# Altium schematic symbol library Resistor - Chip - Uniohm.SchLib: 336 symbols (part 2 of 3)
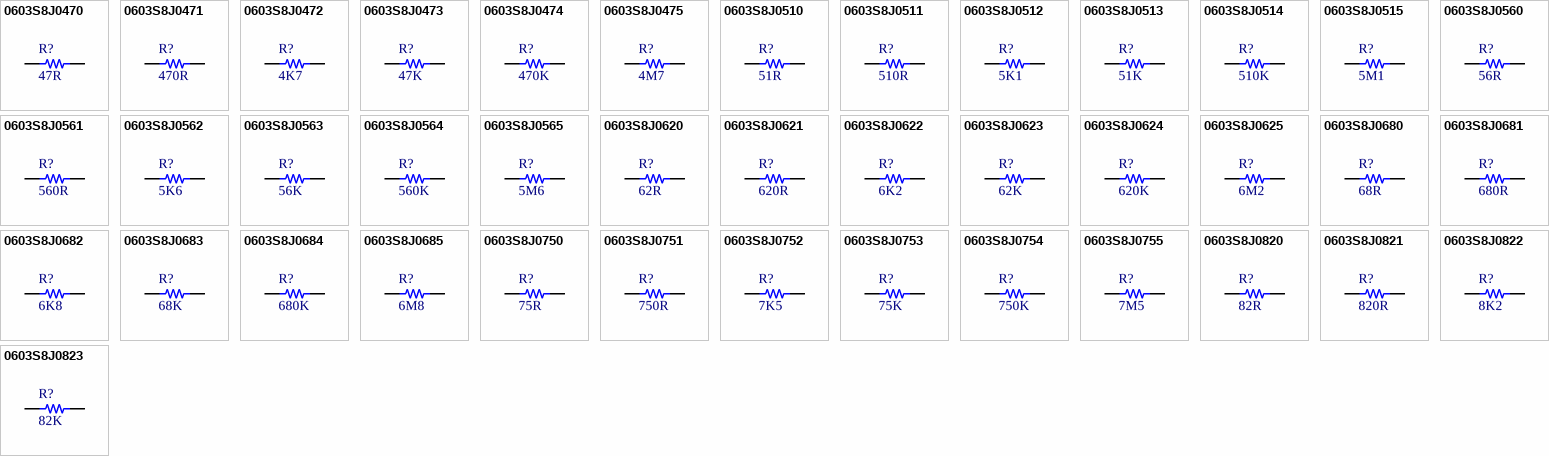
[diagram p9: symbols 0603S8J0470 to 0603S8J0823]

## 0603S8J0511
designator R?, comment 510R
RES SMD 510R OHM 5% 1/8W 0603; Part Number: 0603S8J0511; Manufacturer: Uniohm; TemperatureRange: -55C ~ 155C; TemperatureCoefficient: 100ppm/C; PowerRating: 0.125W, 1/8W; Value: 510R; Tolerance: 5%; Price: 0.0089; Device Package: 1608 (0603 Metric)
footprint RES 0603/1608 (Chip Resistor, 2-Leads, Body 1.60x0.80mm, IPC Medium Density)
pins: 1, 2

## 0603S8J0512
designator R?, comment 5K1
RES SMD 5K1 OHM 5% 1/8W 0603; Part Number: 0603S8J0512; Manufacturer: Uniohm; TemperatureRange: -55C ~ 155C; TemperatureCoefficient: 100ppm/C; PowerRating: 0.125W, 1/8W; Value: 5K1; Tolerance: 5%; Price: 0.0089; Device Package: 1608 (0603 Metric)
footprint RES 0603/1608 (Chip Resistor, 2-Leads, Body 1.60x0.80mm, IPC Medium Density)
pins: 1, 2

## 0603S8J0513
designator R?, comment 51K
RES SMD 51K OHM 5% 1/8W 0603; Part Number: 0603S8J0513; Manufacturer: Uniohm; TemperatureRange: -55C ~ 155C; TemperatureCoefficient: 100ppm/C; PowerRating: 0.125W, 1/8W; Value: 51K; Tolerance: 5%; Price: 0.0089; Device Package: 1608 (0603 Metric)
footprint RES 0603/1608 (Chip Resistor, 2-Leads, Body 1.60x0.80mm, IPC Medium Density)
pins: 1, 2

## 0603S8J0514
designator R?, comment 510K
RES SMD 510K OHM 5% 1/8W 0603; Part Number: 0603S8J0514; Manufacturer: Uniohm; TemperatureRange: -55C ~ 155C; TemperatureCoefficient: 100ppm/C; PowerRating: 0.125W, 1/8W; Value: 510K; Tolerance: 5%; Price: 0.0089; Device Package: 1608 (0603 Metric)
footprint RES 0603/1608 (Chip Resistor, 2-Leads, Body 1.60x0.80mm, IPC Medium Density)
pins: 1, 2

## 0603S8J0515
designator R?, comment 5M1
RES SMD 5M1 OHM 5% 1/8W 0603; Part Number: 0603S8J0515; Manufacturer: Uniohm; TemperatureRange: -55C ~ 155C; TemperatureCoefficient: 100ppm/C; PowerRating: 0.125W, 1/8W; Value: 5M1; Tolerance: 5%; Price: 0.0089; Device Package: 1608 (0603 Metric)
footprint RES 0603/1608 (Chip Resistor, 2-Leads, Body 1.60x0.80mm, IPC Medium Density)
pins: 1, 2

## 0603S8J0560
designator R?, comment 56R
RES SMD 56R OHM 5% 1/8W 0603; Part Number: 0603S8J0560; Manufacturer: Uniohm; TemperatureRange: -55C ~ 155C; TemperatureCoefficient: 100ppm/C; PowerRating: 0.125W, 1/8W; Value: 56R; Tolerance: 5%; Price: 0.0089; Device Package: 1608 (0603 Metric)
footprint RES 0603/1608 (Chip Resistor, 2-Leads, Body 1.60x0.80mm, IPC Medium Density)
pins: 1, 2

## 0603S8J0561
designator R?, comment 560R
RES SMD 560R OHM 5% 1/8W 0603; Part Number: 0603S8J0561; Manufacturer: Uniohm; TemperatureRange: -55C ~ 155C; TemperatureCoefficient: 100ppm/C; PowerRating: 0.125W, 1/8W; Value: 560R; Tolerance: 5%; Price: 0.0089; Device Package: 1608 (0603 Metric)
footprint RES 0603/1608 (Chip Resistor, 2-Leads, Body 1.60x0.80mm, IPC Medium Density)
pins: 1, 2

## 0603S8J0562
designator R?, comment 5K6
RES SMD 5K6 OHM 5% 1/8W 0603; Part Number: 0603S8J0562; Manufacturer: Uniohm; TemperatureRange: -55C ~ 155C; TemperatureCoefficient: 100ppm/C; PowerRating: 0.125W, 1/8W; Value: 5K6; Tolerance: 5%; Price: 0.0089; Device Package: 1608 (0603 Metric)
footprint RES 0603/1608 (Chip Resistor, 2-Leads, Body 1.60x0.80mm, IPC Medium Density)
pins: 1, 2

## 0603S8J0563
designator R?, comment 56K
RES SMD 56K OHM 5% 1/8W 0603; Part Number: 0603S8J0563; Manufacturer: Uniohm; TemperatureRange: -55C ~ 155C; TemperatureCoefficient: 100ppm/C; PowerRating: 0.125W, 1/8W; Value: 56K; Tolerance: 5%; Price: 0.0089; Device Package: 1608 (0603 Metric)
footprint RES 0603/1608 (Chip Resistor, 2-Leads, Body 1.60x0.80mm, IPC Medium Density)
pins: 1, 2

## 0603S8J0564
designator R?, comment 560K
RES SMD 560K OHM 5% 1/8W 0603; Part Number: 0603S8J0564; Manufacturer: Uniohm; TemperatureRange: -55C ~ 155C; TemperatureCoefficient: 100ppm/C; PowerRating: 0.125W, 1/8W; Value: 560K; Tolerance: 5%; Price: 0.0089; Device Package: 1608 (0603 Metric)
footprint RES 0603/1608 (Chip Resistor, 2-Leads, Body 1.60x0.80mm, IPC Medium Density)
pins: 1, 2

## 0603S8J0565
designator R?, comment 5M6
RES SMD 5M6 OHM 5% 1/8W 0603; Part Number: 0603S8J0565; Manufacturer: Uniohm; TemperatureRange: -55C ~ 155C; TemperatureCoefficient: 100ppm/C; PowerRating: 0.125W, 1/8W; Value: 5M6; Tolerance: 5%; Price: 0.0089; Device Package: 1608 (0603 Metric)
footprint RES 0603/1608 (Chip Resistor, 2-Leads, Body 1.60x0.80mm, IPC Medium Density)
pins: 1, 2

## 0603S8J0620
designator R?, comment 62R
RES SMD 62R OHM 5% 1/8W 0603; Part Number: 0603S8J0620; Manufacturer: Uniohm; TemperatureRange: -55C ~ 155C; TemperatureCoefficient: 100ppm/C; PowerRating: 0.125W, 1/8W; Value: 62R; Tolerance: 5%; Price: 0.0089; Device Package: 1608 (0603 Metric)
footprint RES 0603/1608 (Chip Resistor, 2-Leads, Body 1.60x0.80mm, IPC Medium Density)
pins: 1, 2

## 0603S8J0621
designator R?, comment 620R
RES SMD 620R OHM 5% 1/8W 0603; Part Number: 0603S8J0621; Manufacturer: Uniohm; TemperatureRange: -55C ~ 155C; TemperatureCoefficient: 100ppm/C; PowerRating: 0.125W, 1/8W; Value: 620R; Tolerance: 5%; Price: 0.0089; Device Package: 1608 (0603 Metric)
footprint RES 0603/1608 (Chip Resistor, 2-Leads, Body 1.60x0.80mm, IPC Medium Density)
pins: 1, 2

## 0603S8J0622
designator R?, comment 6K2
RES SMD 6K2 OHM 5% 1/8W 0603; Part Number: 0603S8J0622; Manufacturer: Uniohm; TemperatureRange: -55C ~ 155C; TemperatureCoefficient: 100ppm/C; PowerRating: 0.125W, 1/8W; Value: 6K2; Tolerance: 5%; Price: 0.0089; Device Package: 1608 (0603 Metric)
footprint RES 0603/1608 (Chip Resistor, 2-Leads, Body 1.60x0.80mm, IPC Medium Density)
pins: 1, 2

## 0603S8J0623
designator R?, comment 62K
RES SMD 62K OHM 5% 1/8W 0603; Part Number: 0603S8J0623; Manufacturer: Uniohm; TemperatureRange: -55C ~ 155C; TemperatureCoefficient: 100ppm/C; PowerRating: 0.125W, 1/8W; Value: 62K; Tolerance: 5%; Price: 0.0089; Device Package: 1608 (0603 Metric)
footprint RES 0603/1608 (Chip Resistor, 2-Leads, Body 1.60x0.80mm, IPC Medium Density)
pins: 1, 2

## 0603S8J0624
designator R?, comment 620K
RES SMD 620K OHM 5% 1/8W 0603; Part Number: 0603S8J0624; Manufacturer: Uniohm; TemperatureRange: -55C ~ 155C; TemperatureCoefficient: 100ppm/C; PowerRating: 0.125W, 1/8W; Value: 620K; Tolerance: 5%; Price: 0.0089; Device Package: 1608 (0603 Metric)
footprint RES 0603/1608 (Chip Resistor, 2-Leads, Body 1.60x0.80mm, IPC Medium Density)
pins: 1, 2

## 0603S8J0625
designator R?, comment 6M2
RES SMD 6M2 OHM 5% 1/8W 0603; Part Number: 0603S8J0625; Manufacturer: Uniohm; TemperatureRange: -55C ~ 155C; TemperatureCoefficient: 100ppm/C; PowerRating: 0.125W, 1/8W; Value: 6M2; Tolerance: 5%; Price: 0.0089; Device Package: 1608 (0603 Metric)
footprint RES 0603/1608 (Chip Resistor, 2-Leads, Body 1.60x0.80mm, IPC Medium Density)
pins: 1, 2

## 0603S8J0680
designator R?, comment 68R
RES SMD 68R OHM 5% 1/8W 0603; Part Number: 0603S8J0680; Manufacturer: Uniohm; TemperatureRange: -55C ~ 155C; TemperatureCoefficient: 100ppm/C; PowerRating: 0.125W, 1/8W; Value: 68R; Tolerance: 5%; Price: 0.0089; Device Package: 1608 (0603 Metric)
footprint RES 0603/1608 (Chip Resistor, 2-Leads, Body 1.60x0.80mm, IPC Medium Density)
pins: 1, 2

## 0603S8J0681
designator R?, comment 680R
RES SMD 680R OHM 5% 1/8W 0603; Part Number: 0603S8J0681; Manufacturer: Uniohm; TemperatureRange: -55C ~ 155C; TemperatureCoefficient: 100ppm/C; PowerRating: 0.125W, 1/8W; Value: 680R; Tolerance: 5%; Price: 0.0089; Device Package: 1608 (0603 Metric)
footprint RES 0603/1608 (Chip Resistor, 2-Leads, Body 1.60x0.80mm, IPC Medium Density)
pins: 1, 2

## 0603S8J0682
designator R?, comment 6K8
RES SMD 6K8 OHM 5% 1/8W 0603; Part Number: 0603S8J0682; Manufacturer: Uniohm; TemperatureRange: -55C ~ 155C; TemperatureCoefficient: 100ppm/C; PowerRating: 0.125W, 1/8W; Value: 6K8; Tolerance: 5%; Price: 0.0089; Device Package: 1608 (0603 Metric)
footprint RES 0603/1608 (Chip Resistor, 2-Leads, Body 1.60x0.80mm, IPC Medium Density)
pins: 1, 2

## 0603S8J0683
designator R?, comment 68K
RES SMD 68K OHM 5% 1/8W 0603; Part Number: 0603S8J0683; Manufacturer: Uniohm; TemperatureRange: -55C ~ 155C; TemperatureCoefficient: 100ppm/C; PowerRating: 0.125W, 1/8W; Value: 68K; Tolerance: 5%; Price: 0.0089; Device Package: 1608 (0603 Metric)
footprint RES 0603/1608 (Chip Resistor, 2-Leads, Body 1.60x0.80mm, IPC Medium Density)
pins: 1, 2

## 0603S8J0684
designator R?, comment 680K
RES SMD 680K OHM 5% 1/8W 0603; Part Number: 0603S8J0684; Manufacturer: Uniohm; TemperatureRange: -55C ~ 155C; TemperatureCoefficient: 100ppm/C; PowerRating: 0.125W, 1/8W; Value: 680K; Tolerance: 5%; Price: 0.0089; Device Package: 1608 (0603 Metric)
footprint RES 0603/1608 (Chip Resistor, 2-Leads, Body 1.60x0.80mm, IPC Medium Density)
pins: 1, 2

## 0603S8J0685
designator R?, comment 6M8
RES SMD 6M8 OHM 5% 1/8W 0603; Part Number: 0603S8J0685; Manufacturer: Uniohm; TemperatureRange: -55C ~ 155C; TemperatureCoefficient: 100ppm/C; PowerRating: 0.125W, 1/8W; Value: 6M8; Tolerance: 5%; Price: 0.0089; Device Package: 1608 (0603 Metric)
footprint RES 0603/1608 (Chip Resistor, 2-Leads, Body 1.60x0.80mm, IPC Medium Density)
pins: 1, 2

## 0603S8J0750
designator R?, comment 75R
RES SMD 75R OHM 5% 1/8W 0603; Part Number: 0603S8J0750; Manufacturer: Uniohm; TemperatureRange: -55C ~ 155C; TemperatureCoefficient: 100ppm/C; PowerRating: 0.125W, 1/8W; Value: 75R; Tolerance: 5%; Price: 0.0089; Device Package: 1608 (0603 Metric)
footprint RES 0603/1608 (Chip Resistor, 2-Leads, Body 1.60x0.80mm, IPC Medium Density)
pins: 1, 2

## 0603S8J0751
designator R?, comment 750R
RES SMD 750R OHM 5% 1/8W 0603; Part Number: 0603S8J0751; Manufacturer: Uniohm; TemperatureRange: -55C ~ 155C; TemperatureCoefficient: 100ppm/C; PowerRating: 0.125W, 1/8W; Value: 750R; Tolerance: 5%; Price: 0.0089; Device Package: 1608 (0603 Metric)
footprint RES 0603/1608 (Chip Resistor, 2-Leads, Body 1.60x0.80mm, IPC Medium Density)
pins: 1, 2

## 0603S8J0752
designator R?, comment 7K5
RES SMD 7K5 OHM 5% 1/8W 0603; Part Number: 0603S8J0752; Manufacturer: Uniohm; TemperatureRange: -55C ~ 155C; TemperatureCoefficient: 100ppm/C; PowerRating: 0.125W, 1/8W; Value: 7K5; Tolerance: 5%; Price: 0.0089; Device Package: 1608 (0603 Metric)
footprint RES 0603/1608 (Chip Resistor, 2-Leads, Body 1.60x0.80mm, IPC Medium Density)
pins: 1, 2

## 0603S8J0753
designator R?, comment 75K
RES SMD 75K OHM 5% 1/8W 0603; Part Number: 0603S8J0753; Manufacturer: Uniohm; TemperatureRange: -55C ~ 155C; TemperatureCoefficient: 100ppm/C; PowerRating: 0.125W, 1/8W; Value: 75K; Tolerance: 5%; Price: 0.0089; Device Package: 1608 (0603 Metric)
footprint RES 0603/1608 (Chip Resistor, 2-Leads, Body 1.60x0.80mm, IPC Medium Density)
pins: 1, 2

## 0603S8J0754
designator R?, comment 750K
RES SMD 750K OHM 5% 1/8W 0603; Part Number: 0603S8J0754; Manufacturer: Uniohm; TemperatureRange: -55C ~ 155C; TemperatureCoefficient: 100ppm/C; PowerRating: 0.125W, 1/8W; Value: 750K; Tolerance: 5%; Price: 0.0089; Device Package: 1608 (0603 Metric)
footprint RES 0603/1608 (Chip Resistor, 2-Leads, Body 1.60x0.80mm, IPC Medium Density)
pins: 1, 2

## 0603S8J0755
designator R?, comment 7M5
RES SMD 7M5 OHM 5% 1/8W 0603; Part Number: 0603S8J0755; Manufacturer: Uniohm; TemperatureRange: -55C ~ 155C; TemperatureCoefficient: 100ppm/C; PowerRating: 0.125W, 1/8W; Value: 7M5; Tolerance: 5%; Price: 0.0089; Device Package: 1608 (0603 Metric)
footprint RES 0603/1608 (Chip Resistor, 2-Leads, Body 1.60x0.80mm, IPC Medium Density)
pins: 1, 2

## 0603S8J0820
designator R?, comment 82R
RES SMD 82R OHM 5% 1/8W 0603; Part Number: 0603S8J0820; Manufacturer: Uniohm; TemperatureRange: -55C ~ 155C; TemperatureCoefficient: 100ppm/C; PowerRating: 0.125W, 1/8W; Value: 82R; Tolerance: 5%; Price: 0.0089; Device Package: 1608 (0603 Metric)
footprint RES 0603/1608 (Chip Resistor, 2-Leads, Body 1.60x0.80mm, IPC Medium Density)
pins: 1, 2

## 0603S8J0821
designator R?, comment 820R
RES SMD 820R OHM 5% 1/8W 0603; Part Number: 0603S8J0821; Manufacturer: Uniohm; TemperatureRange: -55C ~ 155C; TemperatureCoefficient: 100ppm/C; PowerRating: 0.125W, 1/8W; Value: 820R; Tolerance: 5%; Price: 0.0089; Device Package: 1608 (0603 Metric)
footprint RES 0603/1608 (Chip Resistor, 2-Leads, Body 1.60x0.80mm, IPC Medium Density)
pins: 1, 2

## 0603S8J0822
designator R?, comment 8K2
RES SMD 8K2 OHM 5% 1/8W 0603; Part Number: 0603S8J0822; Manufacturer: Uniohm; TemperatureRange: -55C ~ 155C; TemperatureCoefficient: 100ppm/C; PowerRating: 0.125W, 1/8W; Value: 8K2; Tolerance: 5%; Price: 0.0089; Device Package: 1608 (0603 Metric)
footprint RES 0603/1608 (Chip Resistor, 2-Leads, Body 1.60x0.80mm, IPC Medium Density)
pins: 1, 2

## 0603S8J0823
designator R?, comment 82K
RES SMD 82K OHM 5% 1/8W 0603; Part Number: 0603S8J0823; Manufacturer: Uniohm; TemperatureRange: -55C ~ 155C; TemperatureCoefficient: 100ppm/C; PowerRating: 0.125W, 1/8W; Value: 82K; Tolerance: 5%; Price: 0.0089; Device Package: 1608 (0603 Metric)
footprint RES 0603/1608 (Chip Resistor, 2-Leads, Body 1.60x0.80mm, IPC Medium Density)
pins: 1, 2

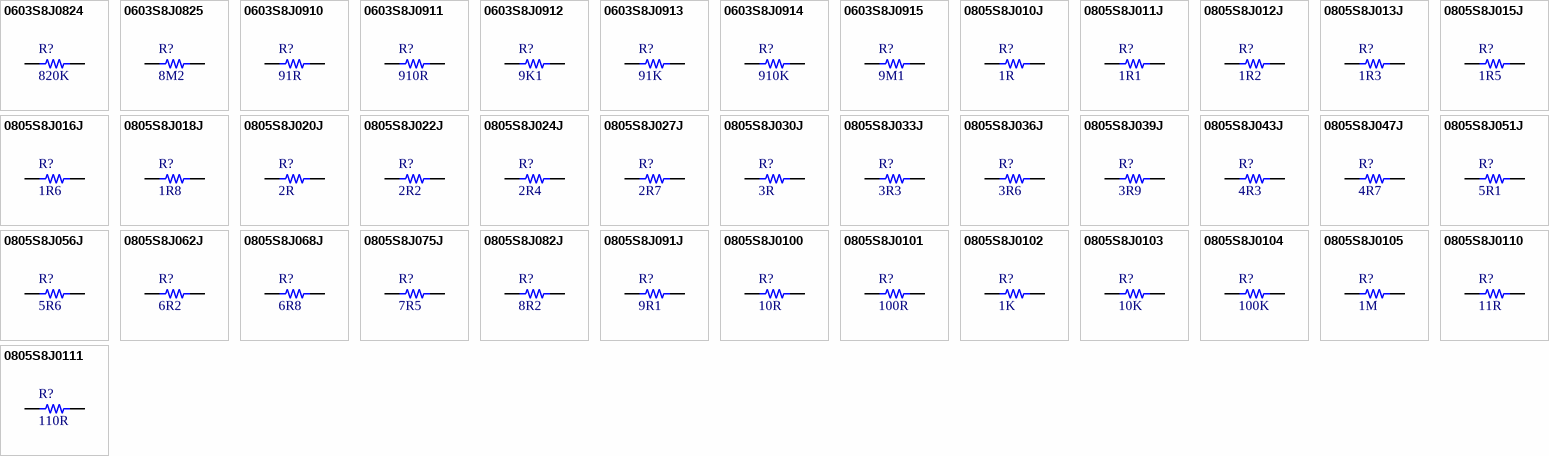
[diagram p4: symbols 0603S8J0824 to 0805S8J0111]

## 0603S8J0824
designator R?, comment 820K
RES SMD 820K OHM 5% 1/8W 0603; Part Number: 0603S8J0824; Manufacturer: Uniohm; TemperatureRange: -55C ~ 155C; TemperatureCoefficient: 100ppm/C; PowerRating: 0.125W, 1/8W; Value: 820K; Tolerance: 5%; Price: 0.0089; Device Package: 1608 (0603 Metric)
footprint RES 0603/1608 (Chip Resistor, 2-Leads, Body 1.60x0.80mm, IPC Medium Density)
pins: 1, 2

## 0603S8J0825
designator R?, comment 8M2
RES SMD 8M2 OHM 5% 1/8W 0603; Part Number: 0603S8J0825; Manufacturer: Uniohm; TemperatureRange: -55C ~ 155C; TemperatureCoefficient: 100ppm/C; PowerRating: 0.125W, 1/8W; Value: 8M2; Tolerance: 5%; Price: 0.0089; Device Package: 1608 (0603 Metric)
footprint RES 0603/1608 (Chip Resistor, 2-Leads, Body 1.60x0.80mm, IPC Medium Density)
pins: 1, 2

## 0603S8J0910
designator R?, comment 91R
RES SMD 91R OHM 5% 1/8W 0603; Part Number: 0603S8J0910; Manufacturer: Uniohm; TemperatureRange: -55C ~ 155C; TemperatureCoefficient: 100ppm/C; PowerRating: 0.125W, 1/8W; Value: 91R; Tolerance: 5%; Price: 0.0089; Device Package: 1608 (0603 Metric)
footprint RES 0603/1608 (Chip Resistor, 2-Leads, Body 1.60x0.80mm, IPC Medium Density)
pins: 1, 2

## 0603S8J0911
designator R?, comment 910R
RES SMD 910R OHM 5% 1/8W 0603; Part Number: 0603S8J0911; Manufacturer: Uniohm; TemperatureRange: -55C ~ 155C; TemperatureCoefficient: 100ppm/C; PowerRating: 0.125W, 1/8W; Value: 910R; Tolerance: 5%; Price: 0.0089; Device Package: 1608 (0603 Metric)
footprint RES 0603/1608 (Chip Resistor, 2-Leads, Body 1.60x0.80mm, IPC Medium Density)
pins: 1, 2

## 0603S8J0912
designator R?, comment 9K1
RES SMD 9K1 OHM 5% 1/8W 0603; Part Number: 0603S8J0912; Manufacturer: Uniohm; TemperatureRange: -55C ~ 155C; TemperatureCoefficient: 100ppm/C; PowerRating: 0.125W, 1/8W; Value: 9K1; Tolerance: 5%; Price: 0.0089; Device Package: 1608 (0603 Metric)
footprint RES 0603/1608 (Chip Resistor, 2-Leads, Body 1.60x0.80mm, IPC Medium Density)
pins: 1, 2

## 0603S8J0913
designator R?, comment 91K
RES SMD 91K OHM 5% 1/8W 0603; Part Number: 0603S8J0913; Manufacturer: Uniohm; TemperatureRange: -55C ~ 155C; TemperatureCoefficient: 100ppm/C; PowerRating: 0.125W, 1/8W; Value: 91K; Tolerance: 5%; Price: 0.0089; Device Package: 1608 (0603 Metric)
footprint RES 0603/1608 (Chip Resistor, 2-Leads, Body 1.60x0.80mm, IPC Medium Density)
pins: 1, 2

## 0603S8J0914
designator R?, comment 910K
RES SMD 910K OHM 5% 1/8W 0603; Part Number: 0603S8J0914; Manufacturer: Uniohm; TemperatureRange: -55C ~ 155C; TemperatureCoefficient: 100ppm/C; PowerRating: 0.125W, 1/8W; Value: 910K; Tolerance: 5%; Price: 0.0089; Device Package: 1608 (0603 Metric)
footprint RES 0603/1608 (Chip Resistor, 2-Leads, Body 1.60x0.80mm, IPC Medium Density)
pins: 1, 2

## 0603S8J0915
designator R?, comment 9M1
RES SMD 9M1 OHM 5% 1/8W 0603; Part Number: 0603S8J0915; Manufacturer: Uniohm; TemperatureRange: -55C ~ 155C; TemperatureCoefficient: 100ppm/C; PowerRating: 0.125W, 1/8W; Value: 9M1; Tolerance: 5%; Price: 0.0089; Device Package: 1608 (0603 Metric)
footprint RES 0603/1608 (Chip Resistor, 2-Leads, Body 1.60x0.80mm, IPC Medium Density)
pins: 1, 2

## 0805S8J010J
designator R?, comment 1R
RES SMD 1R OHM 5% 1/8W 0805; Part Number: 0805S8J010J; Manufacturer: Uniohm; TemperatureRange: -55C ~ 155C; TemperatureCoefficient: 100ppm/C; PowerRating: 0.125W, 1/8W; Value: 1R; Tolerance: 5%; Price: 0.0089; Device Package: 2012 (0805 Metric)
footprint Model Name (Model Description)
footprint Model Name (Model Description)
footprint RES 0805/2012 (Chip Resistor, 2-Leads, Body 2.00x1.25mm, IPC Medium Density)
pins: 1, 2

## 0805S8J011J
designator R?, comment 1R1
RES SMD 1R1 OHM 5% 1/8W 0805; Part Number: 0805S8J011J; Manufacturer: Uniohm; TemperatureRange: -55C ~ 155C; TemperatureCoefficient: 100ppm/C; PowerRating: 0.125W, 1/8W; Value: 1R1; Tolerance: 5%; Price: 0.0089; Device Package: 2012 (0805 Metric)
footprint RES 0805/2012 (Chip Resistor, 2-Leads, Body 2.00x1.25mm, IPC Medium Density)
pins: 1, 2

## 0805S8J012J
designator R?, comment 1R2
RES SMD 1R2 OHM 5% 1/8W 0805; Part Number: 0805S8J012J; Manufacturer: Uniohm; TemperatureRange: -55C ~ 155C; TemperatureCoefficient: 100ppm/C; PowerRating: 0.125W, 1/8W; Value: 1R2; Tolerance: 5%; Price: 0.0089; Device Package: 2012 (0805 Metric)
footprint RES 0805/2012 (Chip Resistor, 2-Leads, Body 2.00x1.25mm, IPC Medium Density)
pins: 1, 2

## 0805S8J013J
designator R?, comment 1R3
RES SMD 1R3 OHM 5% 1/8W 0805; Part Number: 0805S8J013J; Manufacturer: Uniohm; TemperatureRange: -55C ~ 155C; TemperatureCoefficient: 100ppm/C; PowerRating: 0.125W, 1/8W; Value: 1R3; Tolerance: 5%; Price: 0.0089; Device Package: 2012 (0805 Metric)
footprint RES 0805/2012 (Chip Resistor, 2-Leads, Body 2.00x1.25mm, IPC Medium Density)
pins: 1, 2

## 0805S8J015J
designator R?, comment 1R5
RES SMD 1R5 OHM 5% 1/8W 0805; Part Number: 0805S8J015J; Manufacturer: Uniohm; TemperatureRange: -55C ~ 155C; TemperatureCoefficient: 100ppm/C; PowerRating: 0.125W, 1/8W; Value: 1R5; Tolerance: 5%; Price: 0.0089; Device Package: 2012 (0805 Metric)
footprint RES 0805/2012 (Chip Resistor, 2-Leads, Body 2.00x1.25mm, IPC Medium Density)
pins: 1, 2

## 0805S8J016J
designator R?, comment 1R6
RES SMD 1R6 OHM 5% 1/8W 0805; Part Number: 0805S8J016J; Manufacturer: Uniohm; TemperatureRange: -55C ~ 155C; TemperatureCoefficient: 100ppm/C; PowerRating: 0.125W, 1/8W; Value: 1R6; Tolerance: 5%; Price: 0.0089; Device Package: 2012 (0805 Metric)
footprint RES 0805/2012 (Chip Resistor, 2-Leads, Body 2.00x1.25mm, IPC Medium Density)
pins: 1, 2

## 0805S8J018J
designator R?, comment 1R8
RES SMD 1R8 OHM 5% 1/8W 0805; Part Number: 0805S8J018J; Manufacturer: Uniohm; TemperatureRange: -55C ~ 155C; TemperatureCoefficient: 100ppm/C; PowerRating: 0.125W, 1/8W; Value: 1R8; Tolerance: 5%; Price: 0.0089; Device Package: 2012 (0805 Metric)
footprint RES 0805/2012 (Chip Resistor, 2-Leads, Body 2.00x1.25mm, IPC Medium Density)
pins: 1, 2

## 0805S8J020J
designator R?, comment 2R
RES SMD 2R OHM 5% 1/8W 0805; Part Number: 0805S8J020J; Manufacturer: Uniohm; TemperatureRange: -55C ~ 155C; TemperatureCoefficient: 100ppm/C; PowerRating: 0.125W, 1/8W; Value: 2R; Tolerance: 5%; Price: 0.0089; Device Package: 2012 (0805 Metric)
footprint RES 0805/2012 (Chip Resistor, 2-Leads, Body 2.00x1.25mm, IPC Medium Density)
pins: 1, 2

## 0805S8J022J
designator R?, comment 2R2
RES SMD 2R2 OHM 5% 1/8W 0805; Part Number: 0805S8J022J; Manufacturer: Uniohm; TemperatureRange: -55C ~ 155C; TemperatureCoefficient: 100ppm/C; PowerRating: 0.125W, 1/8W; Value: 2R2; Tolerance: 5%; Price: 0.0089; Device Package: 2012 (0805 Metric)
footprint RES 0805/2012 (Chip Resistor, 2-Leads, Body 2.00x1.25mm, IPC Medium Density)
pins: 1, 2

## 0805S8J024J
designator R?, comment 2R4
RES SMD 2R4 OHM 5% 1/8W 0805; Part Number: 0805S8J024J; Manufacturer: Uniohm; TemperatureRange: -55C ~ 155C; TemperatureCoefficient: 100ppm/C; PowerRating: 0.125W, 1/8W; Value: 2R4; Tolerance: 5%; Price: 0.0089; Device Package: 2012 (0805 Metric)
footprint RES 0805/2012 (Chip Resistor, 2-Leads, Body 2.00x1.25mm, IPC Medium Density)
pins: 1, 2

## 0805S8J027J
designator R?, comment 2R7
RES SMD 2R7 OHM 5% 1/8W 0805; Part Number: 0805S8J027J; Manufacturer: Uniohm; TemperatureRange: -55C ~ 155C; TemperatureCoefficient: 100ppm/C; PowerRating: 0.125W, 1/8W; Value: 2R7; Tolerance: 5%; Price: 0.0089; Device Package: 2012 (0805 Metric)
footprint RES 0805/2012 (Chip Resistor, 2-Leads, Body 2.00x1.25mm, IPC Medium Density)
pins: 1, 2

## 0805S8J030J
designator R?, comment 3R
RES SMD 3R OHM 5% 1/8W 0805; Part Number: 0805S8J030J; Manufacturer: Uniohm; TemperatureRange: -55C ~ 155C; TemperatureCoefficient: 100ppm/C; PowerRating: 0.125W, 1/8W; Value: 3R; Tolerance: 5%; Price: 0.0089; Device Package: 2012 (0805 Metric)
footprint RES 0805/2012 (Chip Resistor, 2-Leads, Body 2.00x1.25mm, IPC Medium Density)
pins: 1, 2

## 0805S8J033J
designator R?, comment 3R3
RES SMD 3R3 OHM 5% 1/8W 0805; Part Number: 0805S8J033J; Manufacturer: Uniohm; TemperatureRange: -55C ~ 155C; TemperatureCoefficient: 100ppm/C; PowerRating: 0.125W, 1/8W; Value: 3R3; Tolerance: 5%; Price: 0.0089; Device Package: 2012 (0805 Metric)
footprint RES 0805/2012 (Chip Resistor, 2-Leads, Body 2.00x1.25mm, IPC Medium Density)
pins: 1, 2

## 0805S8J036J
designator R?, comment 3R6
RES SMD 3R6 OHM 5% 1/8W 0805; Part Number: 0805S8J036J; Manufacturer: Uniohm; TemperatureRange: -55C ~ 155C; TemperatureCoefficient: 100ppm/C; PowerRating: 0.125W, 1/8W; Value: 3R6; Tolerance: 5%; Price: 0.0089; Device Package: 2012 (0805 Metric)
footprint RES 0805/2012 (Chip Resistor, 2-Leads, Body 2.00x1.25mm, IPC Medium Density)
pins: 1, 2

## 0805S8J039J
designator R?, comment 3R9
RES SMD 3R9 OHM 5% 1/8W 0805; Part Number: 0805S8J039J; Manufacturer: Uniohm; TemperatureRange: -55C ~ 155C; TemperatureCoefficient: 100ppm/C; PowerRating: 0.125W, 1/8W; Value: 3R9; Tolerance: 5%; Price: 0.0089; Device Package: 2012 (0805 Metric)
footprint RES 0805/2012 (Chip Resistor, 2-Leads, Body 2.00x1.25mm, IPC Medium Density)
pins: 1, 2

## 0805S8J043J
designator R?, comment 4R3
RES SMD 4R3 OHM 5% 1/8W 0805; Part Number: 0805S8J0143J; Manufacturer: Uniohm; TemperatureRange: -55C ~ 155C; TemperatureCoefficient: 100ppm/C; PowerRating: 0.125W, 1/8W; Value: 4R3; Tolerance: 5%; Price: 0.0089; Device Package: 2012 (0805 Metric)
footprint RES 0805/2012 (Chip Resistor, 2-Leads, Body 2.00x1.25mm, IPC Medium Density)
pins: 1, 2

## 0805S8J047J
designator R?, comment 4R7
RES SMD 4R7 OHM 5% 1/8W 0805; Part Number: 0805S8J047J; Manufacturer: Uniohm; TemperatureRange: -55C ~ 155C; TemperatureCoefficient: 100ppm/C; PowerRating: 0.125W, 1/8W; Value: 4R7; Tolerance: 5%; Price: 0.0089; Device Package: 2012 (0805 Metric)
footprint RES 0805/2012 (Chip Resistor, 2-Leads, Body 2.00x1.25mm, IPC Medium Density)
pins: 1, 2

## 0805S8J051J
designator R?, comment 5R1
RES SMD 5R1 OHM 5% 1/8W 0805; Part Number: 0805S8J051J; Manufacturer: Uniohm; TemperatureRange: -55C ~ 155C; TemperatureCoefficient: 100ppm/C; PowerRating: 0.125W, 1/8W; Value: 5R1; Tolerance: 5%; Price: 0.0089; Device Package: 2012 (0805 Metric)
footprint RES 0805/2012 (Chip Resistor, 2-Leads, Body 2.00x1.25mm, IPC Medium Density)
pins: 1, 2

## 0805S8J056J
designator R?, comment 5R6
RES SMD 5R6 OHM 5% 1/8W 0805; Part Number: 0805S8J056J; Manufacturer: Uniohm; TemperatureRange: -55C ~ 155C; TemperatureCoefficient: 100ppm/C; PowerRating: 0.125W, 1/8W; Value: 5R6; Tolerance: 5%; Price: 0.0089; Device Package: 2012 (0805 Metric)
footprint RES 0805/2012 (Chip Resistor, 2-Leads, Body 2.00x1.25mm, IPC Medium Density)
pins: 1, 2

## 0805S8J062J
designator R?, comment 6R2
RES SMD 6R2 OHM 5% 1/8W 0805; Part Number: 0805S8J062J; Manufacturer: Uniohm; TemperatureRange: -55C ~ 155C; TemperatureCoefficient: 100ppm/C; PowerRating: 0.125W, 1/8W; Value: 6R2; Tolerance: 5%; Price: 0.0089; Device Package: 2012 (0805 Metric)
footprint RES 0805/2012 (Chip Resistor, 2-Leads, Body 2.00x1.25mm, IPC Medium Density)
pins: 1, 2

## 0805S8J068J
designator R?, comment 6R8
RES SMD 6R8 OHM 5% 1/8W 0805; Part Number: 0805S8J068J; Manufacturer: Uniohm; TemperatureRange: -55C ~ 155C; TemperatureCoefficient: 100ppm/C; PowerRating: 0.125W, 1/8W; Value: 6R8; Tolerance: 5%; Price: 0.0089; Device Package: 2012 (0805 Metric)
footprint RES 0805/2012 (Chip Resistor, 2-Leads, Body 2.00x1.25mm, IPC Medium Density)
pins: 1, 2

## 0805S8J075J
designator R?, comment 7R5
RES SMD 7R5 OHM 5% 1/8W 0805; Part Number: 0805S8J075J; Manufacturer: Uniohm; TemperatureRange: -55C ~ 155C; TemperatureCoefficient: 100ppm/C; PowerRating: 0.125W, 1/8W; Value: 7R5; Tolerance: 5%; Price: 0.0089; Device Package: 2012 (0805 Metric)
footprint RES 0805/2012 (Chip Resistor, 2-Leads, Body 2.00x1.25mm, IPC Medium Density)
pins: 1, 2

## 0805S8J082J
designator R?, comment 8R2
RES SMD 8R2 OHM 5% 1/8W 0805; Part Number: 0805S8J082J; Manufacturer: Uniohm; TemperatureRange: -55C ~ 155C; TemperatureCoefficient: 100ppm/C; PowerRating: 0.125W, 1/8W; Value: 8R2; Tolerance: 5%; Price: 0.0089; Device Package: 2012 (0805 Metric)
footprint RES 0805/2012 (Chip Resistor, 2-Leads, Body 2.00x1.25mm, IPC Medium Density)
pins: 1, 2

## 0805S8J091J
designator R?, comment 9R1
RES SMD 9R1 OHM 5% 1/8W 0805; Part Number: 0805S8J091J; Manufacturer: Uniohm; TemperatureRange: -55C ~ 155C; TemperatureCoefficient: 100ppm/C; PowerRating: 0.125W, 1/8W; Value: 9R1; Tolerance: 5%; Price: 0.0089; Device Package: 2012 (0805 Metric)
footprint RES 0805/2012 (Chip Resistor, 2-Leads, Body 2.00x1.25mm, IPC Medium Density)
pins: 1, 2

## 0805S8J0100
designator R?, comment 10R
RES SMD 10R OHM 5% 1/8W 0805; Part Number: 0805S8J0100; Manufacturer: Uniohm; TemperatureRange: -55C ~ 155C; TemperatureCoefficient: 100ppm/C; PowerRating: 0.125W, 1/8W; Value: 10R; Tolerance: 5%; Price: 0.0089; Device Package: 2012 (0805 Metric)
footprint RES 0805/2012 (Chip Resistor, 2-Leads, Body 2.00x1.25mm, IPC Medium Density)
pins: 1, 2

## 0805S8J0101
designator R?, comment 100R
RES SMD 100R OHM 5% 1/8W 0805; Part Number: 0805S8J0101; Manufacturer: Uniohm; TemperatureRange: -55C ~ 155C; TemperatureCoefficient: 100ppm/C; PowerRating: 0.125W, 1/8W; Value: 100R; Tolerance: 5%; Price: 0.0089; Device Package: 2012 (0805 Metric)
footprint RES 0805/2012 (Chip Resistor, 2-Leads, Body 2.00x1.25mm, IPC Medium Density)
pins: 1, 2

## 0805S8J0102
designator R?, comment 1K
RES SMD 1K OHM 5% 1/8W 0805; Part Number: 0805S8J0102; Manufacturer: Uniohm; TemperatureRange: -55C ~ 155C; TemperatureCoefficient: 100ppm/C; PowerRating: 0.125W, 1/8W; Value: 1K; Tolerance: 5%; Price: 0.0089; Device Package: 2012 (0805 Metric)
footprint RES 0805/2012 (Chip Resistor, 2-Leads, Body 2.00x1.25mm, IPC Medium Density)
pins: 1, 2

## 0805S8J0103
designator R?, comment 10K
RES SMD 10K OHM 5% 1/8W 0805; Part Number: 0805S8J0103; Manufacturer: Uniohm; TemperatureRange: -55C ~ 155C; TemperatureCoefficient: 100ppm/C; PowerRating: 0.125W, 1/8W; Value: 10K; Tolerance: 5%; Price: 0.0089; Device Package: 2012 (0805 Metric)
footprint RES 0805/2012 (Chip Resistor, 2-Leads, Body 2.00x1.25mm, IPC Medium Density)
pins: 1, 2

## 0805S8J0104
designator R?, comment 100K
RES SMD 100K OHM 5% 1/8W 0805; Part Number: 0805S8J0104; Manufacturer: Uniohm; TemperatureRange: -55C ~ 155C; TemperatureCoefficient: 100ppm/C; PowerRating: 0.125W, 1/8W; Value: 100K; Tolerance: 5%; Price: 0.0089; Device Package: 2012 (0805 Metric)
footprint RES 0805/2012 (Chip Resistor, 2-Leads, Body 2.00x1.25mm, IPC Medium Density)
pins: 1, 2

## 0805S8J0105
designator R?, comment 1M
RES SMD 1M OHM 5% 1/8W 0805; Part Number: 0805S8J0105; Manufacturer: Uniohm; TemperatureRange: -55C ~ 155C; TemperatureCoefficient: 100ppm/C; PowerRating: 0.125W, 1/8W; Value: 1M; Tolerance: 5%; Price: 0.0089; Device Package: 2012 (0805 Metric)
footprint RES 0805/2012 (Chip Resistor, 2-Leads, Body 2.00x1.25mm, IPC Medium Density)
pins: 1, 2

## 0805S8J0110
designator R?, comment 11R
RES SMD 11R OHM 5% 1/8W 0805; Part Number: 0805S8J0110; Manufacturer: Uniohm; TemperatureRange: -55C ~ 155C; TemperatureCoefficient: 100ppm/C; PowerRating: 0.125W, 1/8W; Value: 11R; Tolerance: 5%; Price: 0.0089; Device Package: 2012 (0805 Metric)
footprint RES 0805/2012 (Chip Resistor, 2-Leads, Body 2.00x1.25mm, IPC Medium Density)
pins: 1, 2

## 0805S8J0111
designator R?, comment 110R
RES SMD 110R OHM 5% 1/8W 0805; Part Number: 0805S8J0111; Manufacturer: Uniohm; TemperatureRange: -55C ~ 155C; TemperatureCoefficient: 100ppm/C; PowerRating: 0.125W, 1/8W; Value: 110R; Tolerance: 5%; Price: 0.0089; Device Package: 2012 (0805 Metric)
footprint RES 0805/2012 (Chip Resistor, 2-Leads, Body 2.00x1.25mm, IPC Medium Density)
pins: 1, 2

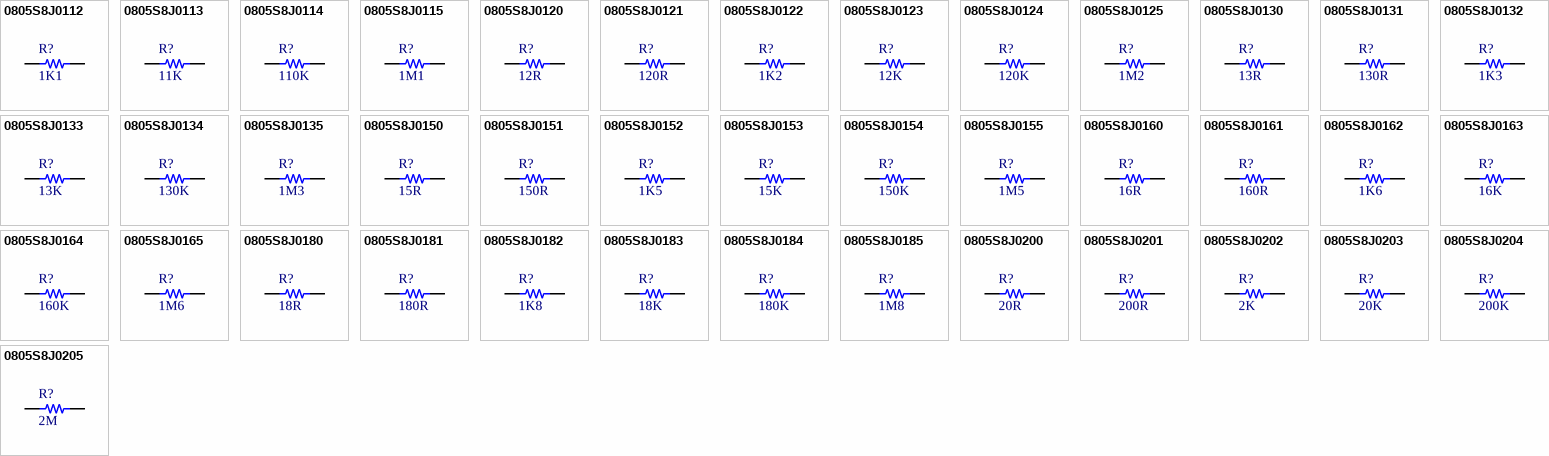
[diagram p5: symbols 0805S8J0112 to 0805S8J0205]

## 0805S8J0112
designator R?, comment 1K1
RES SMD 1K1 OHM 5% 1/8W 0805; Part Number: 0805S8J0112; Manufacturer: Uniohm; TemperatureRange: -55C ~ 155C; TemperatureCoefficient: 100ppm/C; PowerRating: 0.125W, 1/8W; Value: 1K1; Tolerance: 5%; Price: 0.0089; Device Package: 2012 (0805 Metric)
footprint RES 0805/2012 (Chip Resistor, 2-Leads, Body 2.00x1.25mm, IPC Medium Density)
pins: 1, 2

## 0805S8J0113
designator R?, comment 11K
RES SMD 11K OHM 5% 1/8W 0805; Part Number: 0805S8J0113; Manufacturer: Uniohm; TemperatureRange: -55C ~ 155C; TemperatureCoefficient: 100ppm/C; PowerRating: 0.125W, 1/8W; Value: 11K; Tolerance: 5%; Price: 0.0089; Device Package: 2012 (0805 Metric)
footprint RES 0805/2012 (Chip Resistor, 2-Leads, Body 2.00x1.25mm, IPC Medium Density)
pins: 1, 2

## 0805S8J0114
designator R?, comment 110K
RES SMD 110K OHM 5% 1/8W 0805; Part Number: 0805S8J0114; Manufacturer: Uniohm; TemperatureRange: -55C ~ 155C; TemperatureCoefficient: 100ppm/C; PowerRating: 0.125W, 1/8W; Value: 110K; Tolerance: 5%; Price: 0.0089; Device Package: 2012 (0805 Metric)
footprint RES 0805/2012 (Chip Resistor, 2-Leads, Body 2.00x1.25mm, IPC Medium Density)
pins: 1, 2

## 0805S8J0115
designator R?, comment 1M1
RES SMD 1M1 OHM 5% 1/8W 0805; Part Number: 0805S8J0115; Manufacturer: Uniohm; TemperatureRange: -55C ~ 155C; TemperatureCoefficient: 100ppm/C; PowerRating: 0.125W, 1/8W; Value: 1M1; Tolerance: 5%; Price: 0.0089; Device Package: 2012 (0805 Metric)
footprint RES 0805/2012 (Chip Resistor, 2-Leads, Body 2.00x1.25mm, IPC Medium Density)
pins: 1, 2

## 0805S8J0120
designator R?, comment 12R
RES SMD 12R OHM 5% 1/8W 0805; Part Number: 0805S8J0120; Manufacturer: Uniohm; TemperatureRange: -55C ~ 155C; TemperatureCoefficient: 100ppm/C; PowerRating: 0.125W, 1/8W; Value: 12R; Tolerance: 5%; Price: 0.0089; Device Package: 2012 (0805 Metric)
footprint RES 0805/2012 (Chip Resistor, 2-Leads, Body 2.00x1.25mm, IPC Medium Density)
pins: 1, 2

## 0805S8J0121
designator R?, comment 120R
RES SMD 120R OHM 5% 1/8W 0805; Part Number: 0805S8J0121; Manufacturer: Uniohm; TemperatureRange: -55C ~ 155C; TemperatureCoefficient: 100ppm/C; PowerRating: 0.125W, 1/8W; Value: 120R; Tolerance: 5%; Price: 0.0089; Device Package: 2012 (0805 Metric)
footprint RES 0805/2012 (Chip Resistor, 2-Leads, Body 2.00x1.25mm, IPC Medium Density)
pins: 1, 2

## 0805S8J0122
designator R?, comment 1K2
RES SMD 1K2 OHM 5% 1/8W 0805; Part Number: 0805S8J0122; Manufacturer: Uniohm; TemperatureRange: -55C ~ 155C; TemperatureCoefficient: 100ppm/C; PowerRating: 0.125W, 1/8W; Value: 1K2; Tolerance: 5%; Price: 0.0089; Device Package: 2012 (0805 Metric)
footprint RES 0805/2012 (Chip Resistor, 2-Leads, Body 2.00x1.25mm, IPC Medium Density)
pins: 1, 2

## 0805S8J0123
designator R?, comment 12K
RES SMD 12K OHM 5% 1/8W 0805; Part Number: 0805S8J0123; Manufacturer: Uniohm; TemperatureRange: -55C ~ 155C; TemperatureCoefficient: 100ppm/C; PowerRating: 0.125W, 1/8W; Value: 12K; Tolerance: 5%; Price: 0.0089; Device Package: 2012 (0805 Metric)
footprint RES 0805/2012 (Chip Resistor, 2-Leads, Body 2.00x1.25mm, IPC Medium Density)
pins: 1, 2

## 0805S8J0124
designator R?, comment 120K
RES SMD 120K OHM 5% 1/8W 0805; Part Number: 0805S8J0124; Manufacturer: Uniohm; TemperatureRange: -55C ~ 155C; TemperatureCoefficient: 100ppm/C; PowerRating: 0.125W, 1/8W; Value: 120K; Tolerance: 5%; Price: 0.0089; Device Package: 2012 (0805 Metric)
footprint RES 0805/2012 (Chip Resistor, 2-Leads, Body 2.00x1.25mm, IPC Medium Density)
pins: 1, 2

## 0805S8J0125
designator R?, comment 1M2
RES SMD 1M2 OHM 5% 1/8W 0805; Part Number: 0805S8J0125; Manufacturer: Uniohm; TemperatureRange: -55C ~ 155C; TemperatureCoefficient: 100ppm/C; PowerRating: 0.125W, 1/8W; Value: 1M2; Tolerance: 5%; Price: 0.0089; Device Package: 2012 (0805 Metric)
footprint RES 0805/2012 (Chip Resistor, 2-Leads, Body 2.00x1.25mm, IPC Medium Density)
pins: 1, 2

## 0805S8J0130
designator R?, comment 13R
RES SMD 13R OHM 5% 1/8W 0805; Part Number: 0805S8J0130; Manufacturer: Uniohm; TemperatureRange: -55C ~ 155C; TemperatureCoefficient: 100ppm/C; PowerRating: 0.125W, 1/8W; Value: 13R; Tolerance: 5%; Price: 0.0089; Device Package: 2012 (0805 Metric)
footprint RES 0805/2012 (Chip Resistor, 2-Leads, Body 2.00x1.25mm, IPC Medium Density)
pins: 1, 2

## 0805S8J0131
designator R?, comment 130R
RES SMD 130R OHM 5% 1/8W 0805; Part Number: 0805S8J0131; Manufacturer: Uniohm; TemperatureRange: -55C ~ 155C; TemperatureCoefficient: 100ppm/C; PowerRating: 0.125W, 1/8W; Value: 130R; Tolerance: 5%; Price: 0.0089; Device Package: 2012 (0805 Metric)
footprint RES 0805/2012 (Chip Resistor, 2-Leads, Body 2.00x1.25mm, IPC Medium Density)
pins: 1, 2

## 0805S8J0132
designator R?, comment 1K3
RES SMD 1K3 OHM 5% 1/8W 0805; Part Number: 0805S8J0132; Manufacturer: Uniohm; TemperatureRange: -55C ~ 155C; TemperatureCoefficient: 100ppm/C; PowerRating: 0.125W, 1/8W; Value: 1K3; Tolerance: 5%; Price: 0.0089; Device Package: 2012 (0805 Metric)
footprint RES 0805/2012 (Chip Resistor, 2-Leads, Body 2.00x1.25mm, IPC Medium Density)
pins: 1, 2

## 0805S8J0133
designator R?, comment 13K
RES SMD 13K OHM 5% 1/8W 0805; Part Number: 0805S8J0133; Manufacturer: Uniohm; TemperatureRange: -55C ~ 155C; TemperatureCoefficient: 100ppm/C; PowerRating: 0.125W, 1/8W; Value: 13K; Tolerance: 5%; Price: 0.0089; Device Package: 2012 (0805 Metric)
footprint RES 0805/2012 (Chip Resistor, 2-Leads, Body 2.00x1.25mm, IPC Medium Density)
pins: 1, 2

## 0805S8J0134
designator R?, comment 130K
RES SMD 130K OHM 5% 1/8W 0805; Part Number: 0805S8J0134; Manufacturer: Uniohm; TemperatureRange: -55C ~ 155C; TemperatureCoefficient: 100ppm/C; PowerRating: 0.125W, 1/8W; Value: 130K; Tolerance: 5%; Price: 0.0089; Device Package: 2012 (0805 Metric)
footprint RES 0805/2012 (Chip Resistor, 2-Leads, Body 2.00x1.25mm, IPC Medium Density)
pins: 1, 2

## 0805S8J0135
designator R?, comment 1M3
RES SMD 1M3 OHM 5% 1/8W 0805; Part Number: 0805S8J0135; Manufacturer: Uniohm; TemperatureRange: -55C ~ 155C; TemperatureCoefficient: 100ppm/C; PowerRating: 0.125W, 1/8W; Value: 1M3; Tolerance: 5%; Price: 0.0089; Device Package: 2012 (0805 Metric)
footprint RES 0805/2012 (Chip Resistor, 2-Leads, Body 2.00x1.25mm, IPC Medium Density)
pins: 1, 2

## 0805S8J0150
designator R?, comment 15R
RES SMD 15R OHM 5% 1/8W 0805; Part Number: 0805S8J0150; Manufacturer: Uniohm; TemperatureRange: -55C ~ 155C; TemperatureCoefficient: 100ppm/C; PowerRating: 0.125W, 1/8W; Value: 15R; Tolerance: 5%; Price: 0.0089; Device Package: 2012 (0805 Metric)
footprint RES 0805/2012 (Chip Resistor, 2-Leads, Body 2.00x1.25mm, IPC Medium Density)
pins: 1, 2

## 0805S8J0151
designator R?, comment 150R
RES SMD 150R OHM 5% 1/8W 0805; Part Number: 0805S8J0151; Manufacturer: Uniohm; TemperatureRange: -55C ~ 155C; TemperatureCoefficient: 100ppm/C; PowerRating: 0.125W, 1/8W; Value: 150R; Tolerance: 5%; Price: 0.0089; Device Package: 2012 (0805 Metric)
footprint RES 0805/2012 (Chip Resistor, 2-Leads, Body 2.00x1.25mm, IPC Medium Density)
pins: 1, 2

## 0805S8J0152
designator R?, comment 1K5
RES SMD 1K5 OHM 5% 1/8W 0805; Part Number: 0805S8J0152; Manufacturer: Uniohm; TemperatureRange: -55C ~ 155C; TemperatureCoefficient: 100ppm/C; PowerRating: 0.125W, 1/8W; Value: 1K5; Tolerance: 5%; Price: 0.0089; Device Package: 2012 (0805 Metric)
footprint RES 0805/2012 (Chip Resistor, 2-Leads, Body 2.00x1.25mm, IPC Medium Density)
pins: 1, 2

## 0805S8J0153
designator R?, comment 15K
RES SMD 15K OHM 5% 1/8W 0805; Part Number: 0805S8J0153; Manufacturer: Uniohm; TemperatureRange: -55C ~ 155C; TemperatureCoefficient: 100ppm/C; PowerRating: 0.125W, 1/8W; Value: 15K; Tolerance: 5%; Price: 0.0089; Device Package: 2012 (0805 Metric)
footprint RES 0805/2012 (Chip Resistor, 2-Leads, Body 2.00x1.25mm, IPC Medium Density)
pins: 1, 2

## 0805S8J0154
designator R?, comment 150K
RES SMD 150K OHM 5% 1/8W 0805; Part Number: 0805S8J0154; Manufacturer: Uniohm; TemperatureRange: -55C ~ 155C; TemperatureCoefficient: 100ppm/C; PowerRating: 0.125W, 1/8W; Value: 150K; Tolerance: 5%; Price: 0.0089; Device Package: 2012 (0805 Metric)
footprint RES 0805/2012 (Chip Resistor, 2-Leads, Body 2.00x1.25mm, IPC Medium Density)
pins: 1, 2

## 0805S8J0155
designator R?, comment 1M5
RES SMD 1M5 OHM 5% 1/8W 0805; Part Number: 0805S8J0155; Manufacturer: Uniohm; TemperatureRange: -55C ~ 155C; TemperatureCoefficient: 100ppm/C; PowerRating: 0.125W, 1/8W; Value: 1M5; Tolerance: 5%; Price: 0.0089; Device Package: 2012 (0805 Metric)
footprint RES 0805/2012 (Chip Resistor, 2-Leads, Body 2.00x1.25mm, IPC Medium Density)
pins: 1, 2

## 0805S8J0160
designator R?, comment 16R
RES SMD 16R OHM 5% 1/8W 0805; Part Number: 0805S8J0160; Manufacturer: Uniohm; TemperatureRange: -55C ~ 155C; TemperatureCoefficient: 100ppm/C; PowerRating: 0.125W, 1/8W; Value: 16R; Tolerance: 5%; Price: 0.0089; Device Package: 2012 (0805 Metric)
footprint RES 0805/2012 (Chip Resistor, 2-Leads, Body 2.00x1.25mm, IPC Medium Density)
pins: 1, 2

## 0805S8J0161
designator R?, comment 160R
RES SMD 160R OHM 5% 1/8W 0805; Part Number: 0805S8J0161; Manufacturer: Uniohm; TemperatureRange: -55C ~ 155C; TemperatureCoefficient: 100ppm/C; PowerRating: 0.125W, 1/8W; Value: 160R; Tolerance: 5%; Price: 0.0089; Device Package: 2012 (0805 Metric)
footprint RES 0805/2012 (Chip Resistor, 2-Leads, Body 2.00x1.25mm, IPC Medium Density)
pins: 1, 2

## 0805S8J0162
designator R?, comment 1K6
RES SMD 1K6 OHM 5% 1/8W 0805; Part Number: 0805S8J0162; Manufacturer: Uniohm; TemperatureRange: -55C ~ 155C; TemperatureCoefficient: 100ppm/C; PowerRating: 0.125W, 1/8W; Value: 1K6; Tolerance: 5%; Price: 0.0089; Device Package: 2012 (0805 Metric)
footprint RES 0805/2012 (Chip Resistor, 2-Leads, Body 2.00x1.25mm, IPC Medium Density)
pins: 1, 2

## 0805S8J0163
designator R?, comment 16K
RES SMD 16K OHM 5% 1/8W 0805; Part Number: 0805S8J0163; Manufacturer: Uniohm; TemperatureRange: -55C ~ 155C; TemperatureCoefficient: 100ppm/C; PowerRating: 0.125W, 1/8W; Value: 16K; Tolerance: 5%; Price: 0.0089; Device Package: 2012 (0805 Metric)
footprint RES 0805/2012 (Chip Resistor, 2-Leads, Body 2.00x1.25mm, IPC Medium Density)
pins: 1, 2

## 0805S8J0164
designator R?, comment 160K
RES SMD 160K OHM 5% 1/8W 0805; Part Number: 0805S8J0164; Manufacturer: Uniohm; TemperatureRange: -55C ~ 155C; TemperatureCoefficient: 100ppm/C; PowerRating: 0.125W, 1/8W; Value: 160K; Tolerance: 5%; Price: 0.0089; Device Package: 2012 (0805 Metric)
footprint RES 0805/2012 (Chip Resistor, 2-Leads, Body 2.00x1.25mm, IPC Medium Density)
pins: 1, 2

## 0805S8J0165
designator R?, comment 1M6
RES SMD 1M6 OHM 5% 1/8W 0805; Part Number: 0805S8J0165; Manufacturer: Uniohm; TemperatureRange: -55C ~ 155C; TemperatureCoefficient: 100ppm/C; PowerRating: 0.125W, 1/8W; Value: 1M6; Tolerance: 5%; Price: 0.0089; Device Package: 2012 (0805 Metric)
footprint RES 0805/2012 (Chip Resistor, 2-Leads, Body 2.00x1.25mm, IPC Medium Density)
pins: 1, 2

## 0805S8J0180
designator R?, comment 18R
RES SMD 18R OHM 5% 1/8W 0805; Part Number: 0805S8J0180; Manufacturer: Uniohm; TemperatureRange: -55C ~ 155C; TemperatureCoefficient: 100ppm/C; PowerRating: 0.125W, 1/8W; Value: 18R; Tolerance: 5%; Price: 0.0089; Device Package: 2012 (0805 Metric)
footprint RES 0805/2012 (Chip Resistor, 2-Leads, Body 2.00x1.25mm, IPC Medium Density)
pins: 1, 2

## 0805S8J0181
designator R?, comment 180R
RES SMD 180R OHM 5% 1/8W 0805; Part Number: 0805S8J0181; Manufacturer: Uniohm; TemperatureRange: -55C ~ 155C; TemperatureCoefficient: 100ppm/C; PowerRating: 0.125W, 1/8W; Value: 180R; Tolerance: 5%; Price: 0.0089; Device Package: 2012 (0805 Metric)
footprint RES 0805/2012 (Chip Resistor, 2-Leads, Body 2.00x1.25mm, IPC Medium Density)
pins: 1, 2

## 0805S8J0182
designator R?, comment 1K8
RES SMD 1K8 OHM 5% 1/8W 0805; Part Number: 0805S8J0182; Manufacturer: Uniohm; TemperatureRange: -55C ~ 155C; TemperatureCoefficient: 100ppm/C; PowerRating: 0.125W, 1/8W; Value: 1K8; Tolerance: 5%; Price: 0.0089; Device Package: 2012 (0805 Metric)
footprint RES 0805/2012 (Chip Resistor, 2-Leads, Body 2.00x1.25mm, IPC Medium Density)
pins: 1, 2

## 0805S8J0183
designator R?, comment 18K
RES SMD 18K OHM 5% 1/8W 0805; Part Number: 0805S8J0183; Manufacturer: Uniohm; TemperatureRange: -55C ~ 155C; TemperatureCoefficient: 100ppm/C; PowerRating: 0.125W, 1/8W; Value: 18K; Tolerance: 5%; Price: 0.0089; Device Package: 2012 (0805 Metric)
footprint RES 0805/2012 (Chip Resistor, 2-Leads, Body 2.00x1.25mm, IPC Medium Density)
pins: 1, 2

## 0805S8J0184
designator R?, comment 180K
RES SMD 180K OHM 5% 1/8W 0805; Part Number: 0805S8J0184; Manufacturer: Uniohm; TemperatureRange: -55C ~ 155C; TemperatureCoefficient: 100ppm/C; PowerRating: 0.125W, 1/8W; Value: 180K; Tolerance: 5%; Price: 0.0089; Device Package: 2012 (0805 Metric)
footprint RES 0805/2012 (Chip Resistor, 2-Leads, Body 2.00x1.25mm, IPC Medium Density)
pins: 1, 2

## 0805S8J0185
designator R?, comment 1M8
RES SMD 1M8 OHM 5% 1/8W 0805; Part Number: 0805S8J0185; Manufacturer: Uniohm; TemperatureRange: -55C ~ 155C; TemperatureCoefficient: 100ppm/C; PowerRating: 0.125W, 1/8W; Value: 1M8; Tolerance: 5%; Price: 0.0089; Device Package: 2012 (0805 Metric)
footprint RES 0805/2012 (Chip Resistor, 2-Leads, Body 2.00x1.25mm, IPC Medium Density)
pins: 1, 2

## 0805S8J0200
designator R?, comment 20R
RES SMD 20R OHM 5% 1/8W 0805; Part Number: 0805S8J0200; Manufacturer: Uniohm; TemperatureRange: -55C ~ 155C; TemperatureCoefficient: 100ppm/C; PowerRating: 0.125W, 1/8W; Value: 20R; Tolerance: 5%; Price: 0.0089; Device Package: 2012 (0805 Metric)
footprint RES 0805/2012 (Chip Resistor, 2-Leads, Body 2.00x1.25mm, IPC Medium Density)
pins: 1, 2

## 0805S8J0201
designator R?, comment 200R
RES SMD 200R OHM 5% 1/8W 0805; Part Number: 0805S8J0201; Manufacturer: Uniohm; TemperatureRange: -55C ~ 155C; TemperatureCoefficient: 100ppm/C; PowerRating: 0.125W, 1/8W; Value: 200R; Tolerance: 5%; Price: 0.0089; Device Package: 2012 (0805 Metric)
footprint RES 0805/2012 (Chip Resistor, 2-Leads, Body 2.00x1.25mm, IPC Medium Density)
pins: 1, 2

## 0805S8J0202
designator R?, comment 2K
RES SMD 2K OHM 5% 1/8W 0805; Part Number: 0805S8J0202; Manufacturer: Uniohm; TemperatureRange: -55C ~ 155C; TemperatureCoefficient: 100ppm/C; PowerRating: 0.125W, 1/8W; Value: 2K; Tolerance: 5%; Price: 0.0089; Device Package: 2012 (0805 Metric)
footprint RES 0805/2012 (Chip Resistor, 2-Leads, Body 2.00x1.25mm, IPC Medium Density)
pins: 1, 2

## 0805S8J0203
designator R?, comment 20K
RES SMD 20K OHM 5% 1/8W 0805; Part Number: 0805S8J0203; Manufacturer: Uniohm; TemperatureRange: -55C ~ 155C; TemperatureCoefficient: 100ppm/C; PowerRating: 0.125W, 1/8W; Value: 20K; Tolerance: 5%; Price: 0.0089; Device Package: 2012 (0805 Metric)
footprint RES 0805/2012 (Chip Resistor, 2-Leads, Body 2.00x1.25mm, IPC Medium Density)
pins: 1, 2

## 0805S8J0204
designator R?, comment 200K
RES SMD 200K OHM 5% 1/8W 0805; Part Number: 0805S8J0204; Manufacturer: Uniohm; TemperatureRange: -55C ~ 155C; TemperatureCoefficient: 100ppm/C; PowerRating: 0.125W, 1/8W; Value: 200K; Tolerance: 5%; Price: 0.0089; Device Package: 2012 (0805 Metric)
footprint RES 0805/2012 (Chip Resistor, 2-Leads, Body 2.00x1.25mm, IPC Medium Density)
pins: 1, 2

## 0805S8J0205
designator R?, comment 2M
RES SMD 2M OHM 5% 1/8W 0805; Part Number: 0805S8J0205; Manufacturer: Uniohm; TemperatureRange: -55C ~ 155C; TemperatureCoefficient: 100ppm/C; PowerRating: 0.125W, 1/8W; Value: 2M; Tolerance: 5%; Price: 0.0089; Device Package: 2012 (0805 Metric)
footprint RES 0805/2012 (Chip Resistor, 2-Leads, Body 2.00x1.25mm, IPC Medium Density)
pins: 1, 2

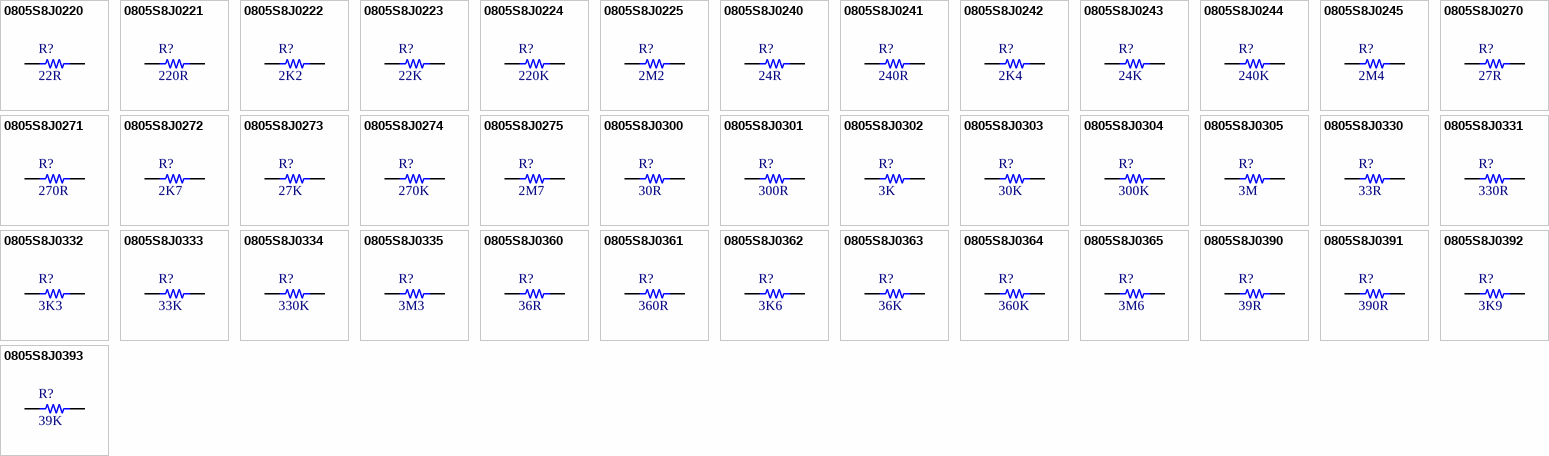
[diagram p6: symbols 0805S8J0220 to 0805S8J0393]

## 0805S8J0220
designator R?, comment 22R
RES SMD 22R OHM 5% 1/8W 0805; Part Number: 0805S8J0220; Manufacturer: Uniohm; TemperatureRange: -55C ~ 155C; TemperatureCoefficient: 100ppm/C; PowerRating: 0.125W, 1/8W; Value: 22R; Tolerance: 5%; Price: 0.0089; Device Package: 2012 (0805 Metric)
footprint RES 0805/2012 (Chip Resistor, 2-Leads, Body 2.00x1.25mm, IPC Medium Density)
pins: 1, 2

## 0805S8J0221
designator R?, comment 220R
RES SMD 220R OHM 5% 1/8W 0805; Part Number: 0805S8J0221; Manufacturer: Uniohm; TemperatureRange: -55C ~ 155C; TemperatureCoefficient: 100ppm/C; PowerRating: 0.125W, 1/8W; Value: 220R; Tolerance: 5%; Price: 0.0089; Device Package: 2012 (0805 Metric)
footprint RES 0805/2012 (Chip Resistor, 2-Leads, Body 2.00x1.25mm, IPC Medium Density)
pins: 1, 2

## 0805S8J0222
designator R?, comment 2K2
RES SMD 2K2 OHM 5% 1/8W 0805; Part Number: 0805S8J0222; Manufacturer: Uniohm; TemperatureRange: -55C ~ 155C; TemperatureCoefficient: 100ppm/C; PowerRating: 0.125W, 1/8W; Value: 2K2; Tolerance: 5%; Price: 0.0089; Device Package: 2012 (0805 Metric)
footprint RES 0805/2012 (Chip Resistor, 2-Leads, Body 2.00x1.25mm, IPC Medium Density)
pins: 1, 2

## 0805S8J0223
designator R?, comment 22K
RES SMD 22K OHM 5% 1/8W 0805; Part Number: 0805S8J0223; Manufacturer: Uniohm; TemperatureRange: -55C ~ 155C; TemperatureCoefficient: 100ppm/C; PowerRating: 0.125W, 1/8W; Value: 22K; Tolerance: 5%; Price: 0.0089; Device Package: 2012 (0805 Metric)
footprint RES 0805/2012 (Chip Resistor, 2-Leads, Body 2.00x1.25mm, IPC Medium Density)
pins: 1, 2

## 0805S8J0224
designator R?, comment 220K
RES SMD 220K OHM 5% 1/8W 0805; Part Number: 0805S8J0224; Manufacturer: Uniohm; TemperatureRange: -55C ~ 155C; TemperatureCoefficient: 100ppm/C; PowerRating: 0.125W, 1/8W; Value: 220K; Tolerance: 5%; Price: 0.0089; Device Package: 2012 (0805 Metric)
footprint RES 0805/2012 (Chip Resistor, 2-Leads, Body 2.00x1.25mm, IPC Medium Density)
pins: 1, 2

## 0805S8J0225
designator R?, comment 2M2
RES SMD 2M2 OHM 5% 1/8W 0805; Part Number: 0805S8J0225; Manufacturer: Uniohm; TemperatureRange: -55C ~ 155C; TemperatureCoefficient: 100ppm/C; PowerRating: 0.125W, 1/8W; Value: 2M2; Tolerance: 5%; Price: 0.0089; Device Package: 2012 (0805 Metric)
footprint RES 0805/2012 (Chip Resistor, 2-Leads, Body 2.00x1.25mm, IPC Medium Density)
pins: 1, 2

## 0805S8J0240
designator R?, comment 24R
RES SMD 24R OHM 5% 1/8W 0805; Part Number: 0805S8J0240; Manufacturer: Uniohm; TemperatureRange: -55C ~ 155C; TemperatureCoefficient: 100ppm/C; PowerRating: 0.125W, 1/8W; Value: 24R; Tolerance: 5%; Price: 0.0089; Device Package: 2012 (0805 Metric)
footprint RES 0805/2012 (Chip Resistor, 2-Leads, Body 2.00x1.25mm, IPC Medium Density)
pins: 1, 2

## 0805S8J0241
designator R?, comment 240R
RES SMD 240R OHM 5% 1/8W 0805; Part Number: 0805S8J0241; Manufacturer: Uniohm; TemperatureRange: -55C ~ 155C; TemperatureCoefficient: 100ppm/C; PowerRating: 0.125W, 1/8W; Value: 240R; Tolerance: 5%; Price: 0.0089; Device Package: 2012 (0805 Metric)
footprint RES 0805/2012 (Chip Resistor, 2-Leads, Body 2.00x1.25mm, IPC Medium Density)
pins: 1, 2

## 0805S8J0242
designator R?, comment 2K4
RES SMD 2K4 OHM 5% 1/8W 0805; Part Number: 0805S8J0242; Manufacturer: Uniohm; TemperatureRange: -55C ~ 155C; TemperatureCoefficient: 100ppm/C; PowerRating: 0.125W, 1/8W; Value: 2K4; Tolerance: 5%; Price: 0.0089; Device Package: 2012 (0805 Metric)
footprint RES 0805/2012 (Chip Resistor, 2-Leads, Body 2.00x1.25mm, IPC Medium Density)
pins: 1, 2

## 0805S8J0243
designator R?, comment 24K
RES SMD 24K OHM 5% 1/8W 0805; Part Number: 0805S8J0243; Manufacturer: Uniohm; TemperatureRange: -55C ~ 155C; TemperatureCoefficient: 100ppm/C; PowerRating: 0.125W, 1/8W; Value: 24K; Tolerance: 5%; Price: 0.0089; Device Package: 2012 (0805 Metric)
footprint RES 0805/2012 (Chip Resistor, 2-Leads, Body 2.00x1.25mm, IPC Medium Density)
pins: 1, 2

## 0805S8J0244
designator R?, comment 240K
RES SMD 240K OHM 5% 1/8W 0805; Part Number: 0805S8J0244; Manufacturer: Uniohm; TemperatureRange: -55C ~ 155C; TemperatureCoefficient: 100ppm/C; PowerRating: 0.125W, 1/8W; Value: 240K; Tolerance: 5%; Price: 0.0089; Device Package: 2012 (0805 Metric)
footprint RES 0805/2012 (Chip Resistor, 2-Leads, Body 2.00x1.25mm, IPC Medium Density)
pins: 1, 2

## 0805S8J0245
designator R?, comment 2M4
RES SMD 2M4 OHM 5% 1/8W 0805; Part Number: 0805S8J0245; Manufacturer: Uniohm; TemperatureRange: -55C ~ 155C; TemperatureCoefficient: 100ppm/C; PowerRating: 0.125W, 1/8W; Value: 2M4; Tolerance: 5%; Price: 0.0089; Device Package: 2012 (0805 Metric)
footprint RES 0805/2012 (Chip Resistor, 2-Leads, Body 2.00x1.25mm, IPC Medium Density)
pins: 1, 2

## 0805S8J0270
designator R?, comment 27R
RES SMD 27R OHM 5% 1/8W 0805; Part Number: 0805S8J0270; Manufacturer: Uniohm; TemperatureRange: -55C ~ 155C; TemperatureCoefficient: 100ppm/C; PowerRating: 0.125W, 1/8W; Value: 27R; Tolerance: 5%; Price: 0.0089; Device Package: 2012 (0805 Metric)
footprint RES 0805/2012 (Chip Resistor, 2-Leads, Body 2.00x1.25mm, IPC Medium Density)
pins: 1, 2

## 0805S8J0271
designator R?, comment 270R
RES SMD 270R OHM 5% 1/8W 0805; Part Number: 0805S8J0271; Manufacturer: Uniohm; TemperatureRange: -55C ~ 155C; TemperatureCoefficient: 100ppm/C; PowerRating: 0.125W, 1/8W; Value: 270R; Tolerance: 5%; Price: 0.0089; Device Package: 2012 (0805 Metric)
footprint RES 0805/2012 (Chip Resistor, 2-Leads, Body 2.00x1.25mm, IPC Medium Density)
pins: 1, 2

## 0805S8J0272
designator R?, comment 2K7
RES SMD 2K7 OHM 5% 1/8W 0805; Part Number: 0805S8J0272; Manufacturer: Uniohm; TemperatureRange: -55C ~ 155C; TemperatureCoefficient: 100ppm/C; PowerRating: 0.125W, 1/8W; Value: 2K7; Tolerance: 5%; Price: 0.0089; Device Package: 2012 (0805 Metric)
footprint RES 0805/2012 (Chip Resistor, 2-Leads, Body 2.00x1.25mm, IPC Medium Density)
pins: 1, 2